# EAGLE library part LM27761 (library Soil Power Sensor)
Low-Noise Regulated Inverter with Integrated LDO
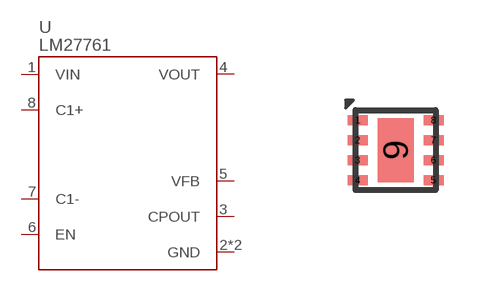
[diagram p9: symbol with the pads of SON50P200X200X80-9TPN; footprint SON50P200X200X80-9TPN]

Designator prefix U

## LM27761DSG (AUTHOR: John Madden <jmadden173@pm.me>; DATE_CREATED: 2023-04-11; DATE_MODIFIED: 2023-04-11; MFC: TI; MPN: LM27761DSGR; REF: https://www.ti.com/product/LM27761)  [SON50P200X200X80-9TPN]
1  VIN  pwr
2  GND  pwr
3  CPOUT
4  VOUT  pwr
5  VFB
6  EN
7  C1-
8  C1+
9  GND  pwr

## Footprint SON50P200X200X80-9TPN (pad centres in mm)
DSG0008A
smd 0.5 x 0.25: 1 -0.95,0.75; 2 -0.95,0.25; 3 -0.95,-0.25; 4 -0.95,-0.75; 5 0.95,-0.75; 6 0.95,-0.25; 7 0.95,0.25; 8 0.95,0.75
smd 0.9 x 1.6: 9 0,0